# Altium schematic symbol library IP20.SchLib: 1 symbol
Pins are listed as number, name and electrical type; pins without a type are passive.

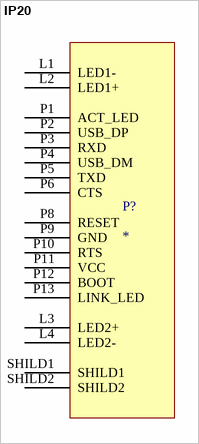
[diagram p0: symbol IP20]

## IP20
designator P?
pins: L1 LED1-, L2 LED1+, L3 LED2+, L4 LED2-, P1 ACT_LED, P2 USB_DP, P3 RXD, P4 USB_DM, P5 TXD, P6 CTS, P8 RESET, P9 GND, P10 RTS, P11 VCC, P12 BOOT, P13 LINK_LED, SHILD1, SHILD2